# Altium footprint library Footprint.PcbLib: 1 footprints
Each footprint in its own frame and in the unit in brackets; x right, y up, seen from the top. Pads: shape width x height; smd on the part's side, far side on the other; paste and mask are expansions set on the pad; w line width, h text height; cw(c..) or ccw(c..) is an arc to the next point about the centre after c.
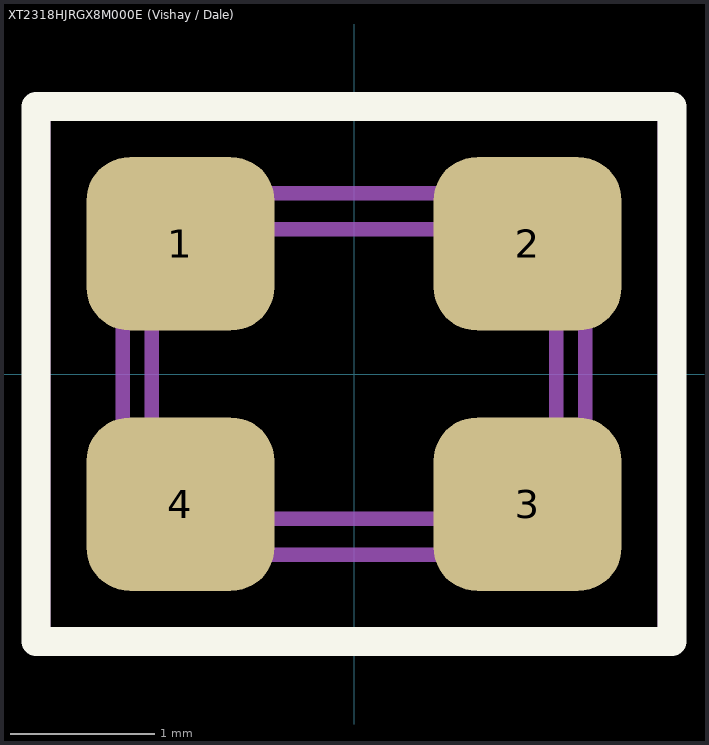
[diagram p0: the footprint, top view; thin cyan lines are the x and y axes]

## XT2318HJRGX8M000E (Vishay / Dale) [mm] "Crystal, 4-Leads, Body 3.20x2.50 mm, IPC Medium Density"
height 0.8
pads (4):
  rrect50% 1.3x1.2 smd mask+0.05: 1(-1.2,0.9) 2(1.2,0.9) 3(1.2,-0.9) 4(-1.2,-0.9)
Top Overlay:
  lines w0.2: -2.2,-1.85 2.2,-1.85 2.2,1.85 -2.2,1.85 -2.2,-1.85
Top Pattern:
  lines w0.1: -1.6,-1.25 1.6,-1.25 1.6,1.25 -1.6,1.25 -1.6,-1.25 ; -1.4,-1 1.4,-1 1.4,1 -1.4,1 -1.4,-1
  text ".Designator" at -2.3,2.3 h1.52
Courtyard:
  lines w0.1: -2.15,-1.8 2.15,-1.8 2.15,1.8 -2.15,1.8 -2.15,-1.8
3D body "XT2318HJRGX8M000E.step": height 0.8, standoff 0, extent -1.6,-1.25 1.6,1.25